# Altium schematic symbol library AD8671S.Schlib: 1 symbol
Pins are listed as number, name and electrical type; pins without a type are passive.

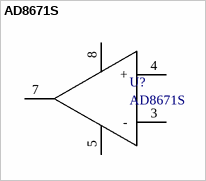
[diagram p0: symbol AD8671S]

## AD8671S
designator U?
Назначение: Операционный усилитель; Наименование: AD8671S
pins: 3 -, 4 +, 5 Vss-, 7 Vout, 8 Vss+